# Altium schematic symbol library LPS25HB.SchLib: 1 symbol
Pins are listed as number, name and electrical type; pins without a type are passive.

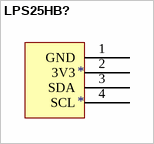
[diagram p0: symbol LPS25HB?]

## LPS25HB?
designator *
LPS25HB Breakout Board
footprint PCBComponent_1
pins: 1 GND, 2 3V3, 3 SDA, 4 SCL